# EAGLE library part 760390015 (library isystems-würth)
Würth Elektronik / Midcom 760390015 Fly-Buck Transformer 1:2 3.3V In 5V Out
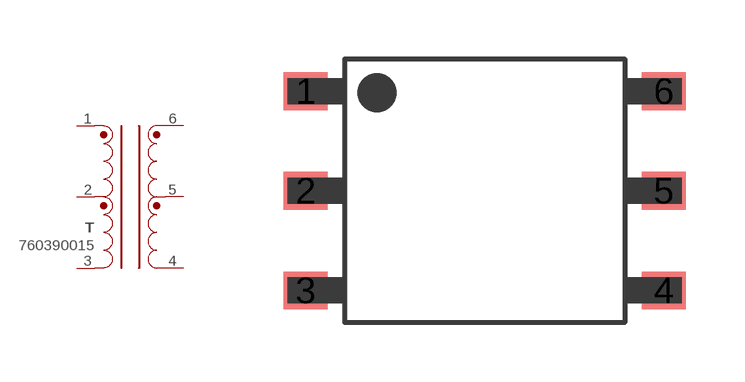
[diagram p1: symbol with the pads of SN6501; footprint SN6501]

Designator prefix T

## 760390015  [SN6501]
1  1
2  2
3  3
4  4
5  5
6  6

## Footprint SN6501 (pad centres in mm)
Würth Elektronik / Midcom SN6501 Package Based on 760390015 Datasheet
smd 1.12 x 0.96: 1 -4.57,2.54; 2 -4.57,0; 3 -4.57,-2.54; 4 4.57,-2.54; 5 4.57,0; 6 4.57,2.54